# Altium schematic symbol library FourRouterMy.SchLib: 5 symbols
Pins are listed as number, name and electrical type; pins without a type are passive.

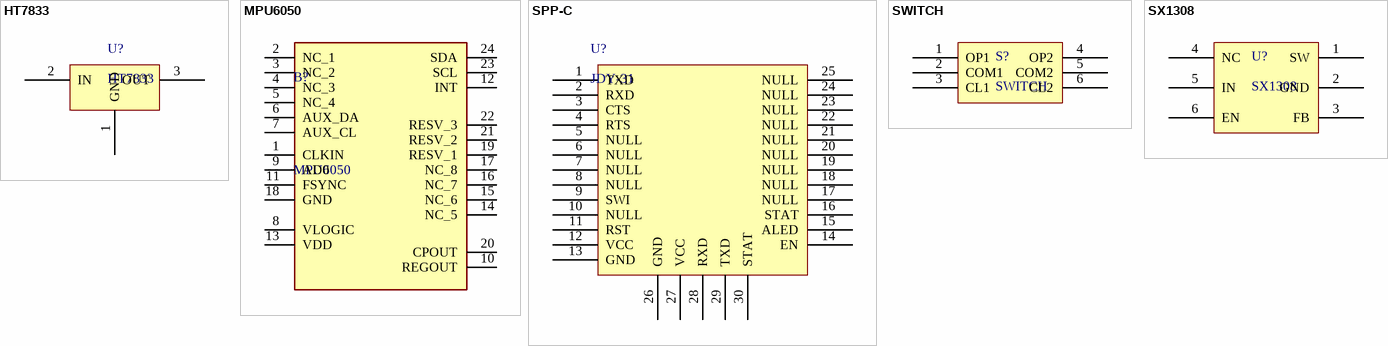
[diagram p0: symbols HT7833 to SX1308]

## HT7833
designator U?
pins: 1 GND, 2 IN, 3 OUT

## MPU6050
designator B?
Accelerometer and Gyroscope Digital Output 2.5V/3.3V 24-Pin QFN EP; Manufacturer_Name: TDK; Geometry.Height: 0.95mm; Mouser Part Number: *; Mouser Price/Stock: *; Manufacturer_Part_Number: MPU6050; Datasheet Link: https://invensense.tdk.com/wp-content/uploads/2015/02/MPU-6000-Datasheet1.pdf
footprint MPU6050
pins: 1 CLKIN, 2 NC_1, 3 NC_2, 4 NC_3, 5 NC_4, 6 AUX_DA, 7 AUX_CL, 8 VLOGIC, 9 AD0, 10 REGOUT, 11 FSYNC, 12 INT, 13 VDD, 14 NC_5, 15 NC_6, 16 NC_7, 17 NC_8, 18 GND, 19 RESV_1, 20 CPOUT, 21 RESV_2, 22 RESV_3, 23 SCL, 24 SDA

## SPP-C
designator U?, comment JDY-31
pins: 1 TXD, 2 RXD, 3 CTS, 4 RTS, 5 NULL, 6 NULL, 7 NULL, 8 NULL, 9 SWI, 10 NULL, 11 RST, 12 VCC, 13 GND, 14 EN, 15 ALED, 16 STAT, 17 NULL, 18 NULL, 19 NULL, 20 NULL, 21 NULL, 22 NULL, 23 NULL, 24 NULL, 25 NULL, 26 GND, 27 VCC, 28 RXD, 29 TXD, 30 STAT

## SWITCH
designator S?
pins: 1 OP1, 2 COM1, 3 CL1, 4 OP2, 5 COM2, 6 CL2

## SX1308
designator U?
pins: 1 SW, 2 GND, 3 FB, 4 NC, 5 IN, 6 EN